# Altium footprint library PCB_EPS_2.PcbLib: 44 footprints (part 2 of 3)
Each footprint in its own frame and in the unit in brackets; x right, y up, seen from the top. Pads: shape width x height; smd on the part's side, far side on the other; paste and mask are expansions set on the pad; w line width, h text height; cw(c..) or ccw(c..) is an arc to the next point about the centre after c.
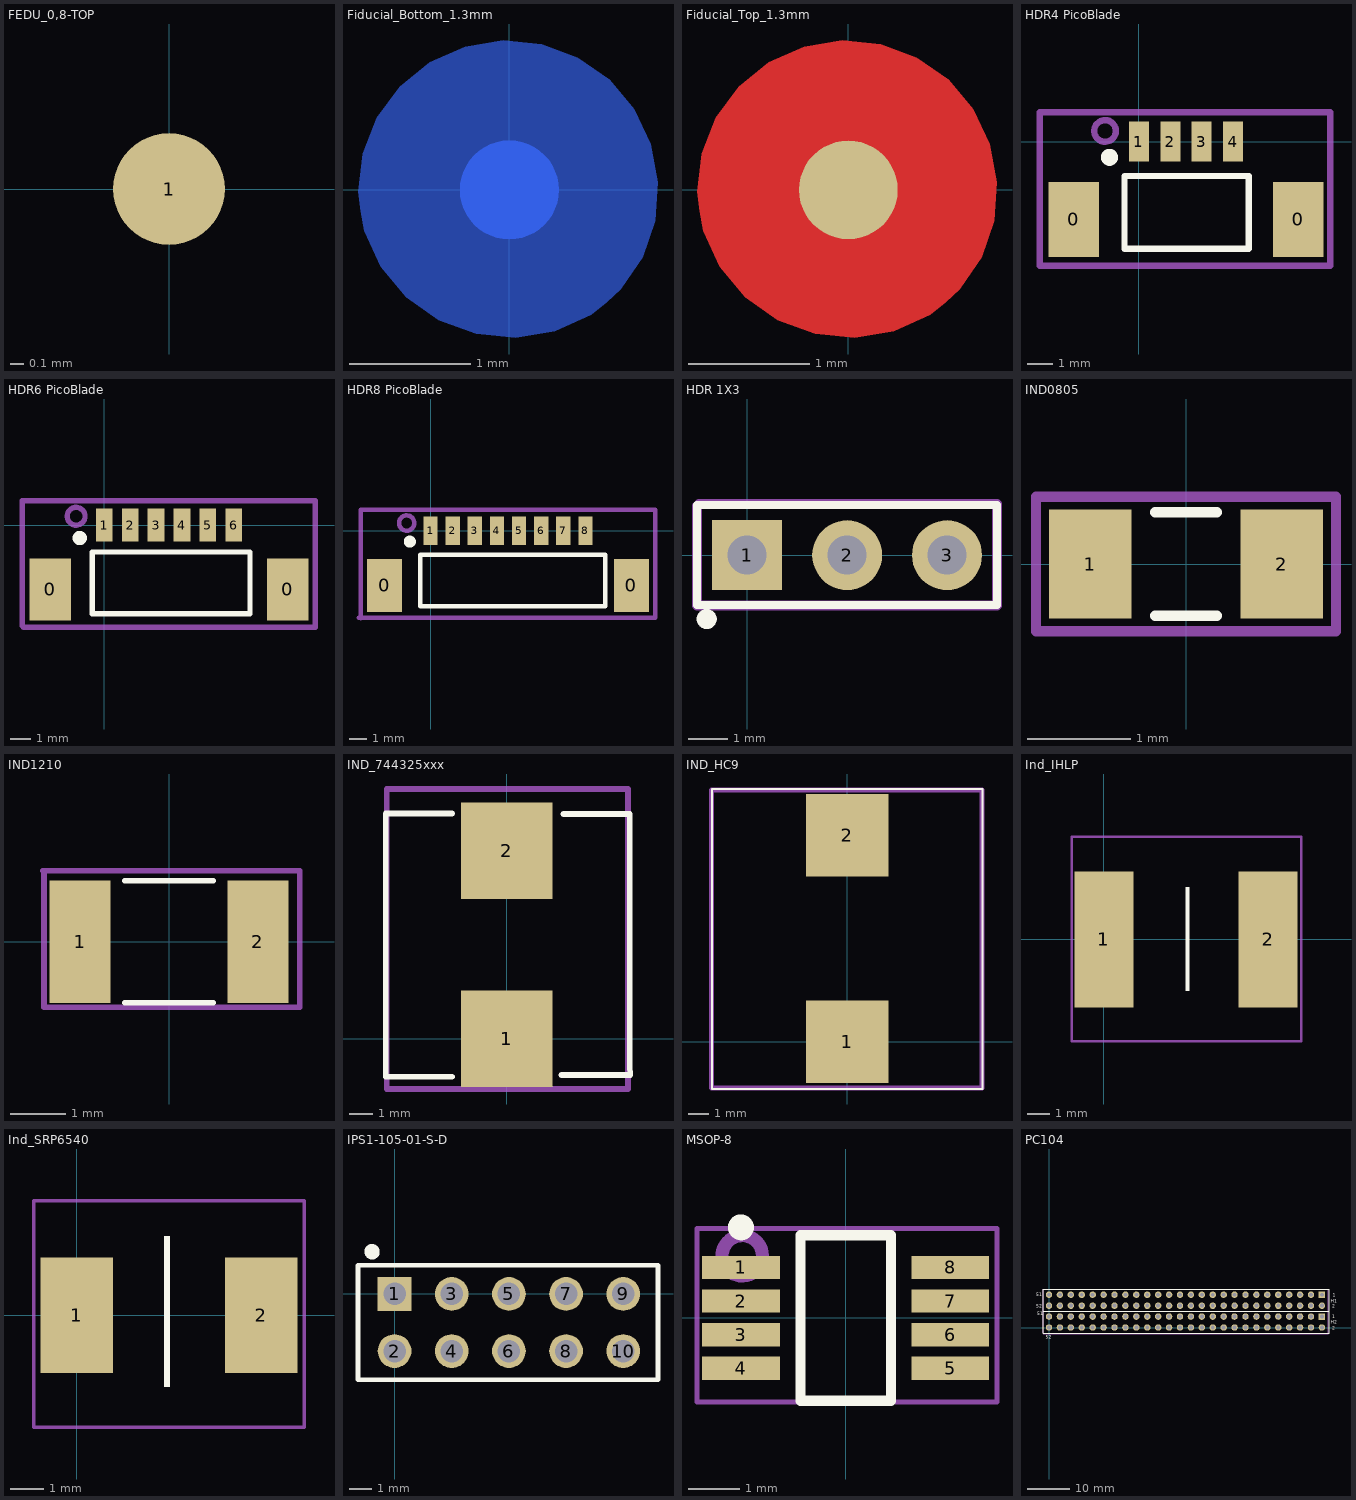
[diagram p1: the footprints below, top view; thin cyan lines are the x and y axes]

## FEDU_0,8-TOP [mil]
pads (1):
  round 32 smd: 1(0,0)
Top Solder:
  circle w10: c0,0 r43.01
  region: -31,-31 0,-43 32,-31 43,0 32,29 0,43 -31,31 -43,0

## Fiducial_Bottom_1.3mm [mil]
pads (2):
  round 32 smd far side: ""(-0.01,-0.01)
  round 32 on Bottom Solder: ""(0,0)
Bottom Layer:
  pour cut-out: -48.23,-6.89 -49.1,-0.69 -47.61,11.76 -43,23.41 -35.57,33.5 -25.81,41.35 -14.36,46.46 -1.99,48.47 10.48,47.27 22.23,42.91 32.48,35.71 40.55,26.12 45.91,14.79 48.2,2.47 47.27,-10.02 43.18,-21.87 36.2,-32.28 31.5,-36.42 26.5,-40.49 14.76,-45.8 2.06,-47.91 -10.77,-46.69 -22.85,-42.21 -33.38,-34.79 -41.64,-24.9 -47.09,-13.23
Bottom Solder:
  circle w10: c0,0 r43.01
  region: -31,-31 0,-43 32,-31 43,0 32,29 0,43 -31,31 -43,0

## Fiducial_Top_1.3mm [mil]
pads (1):
  round 32 smd: ""(0,0)
Top Layer:
  pour cut-out: 0.19,48.23
  pour cut-out: -48.23,-6.89 -49.1,-0.68 -47.61,11.76 -43,23.41 -35.57,33.5 -25.81,41.35 -14.36,46.46 -1.99,48.47 10.48,47.27 22.23,42.91 32.48,35.71 40.55,26.12 45.91,14.79 48.2,2.47 47.27,-10.02 43.18,-21.87 36.2,-32.28 31.5,-36.42 26.5,-40.49 14.76,-45.8 2.06,-47.91 -10.77,-46.69 -22.85,-42.21 -33.38,-34.79 -41.64,-24.9 -47.09,-13.23
Top Solder:
  circle w10: c0,0 r43.01
  region: -31,-31 0,-43 32,-31 43,0 32,29 0,43 -31,31 -43,0

## HDR4 PicoBlade [mm]
height 3.1
pads (6):
  rect 2x3 smd: 0(-2.6,-3.1) 0(6.35,-3.1)
  rect 0.8x1.6 smd: 1(0,0) 2(1.25,0) 3(2.5,0) 4(3.75,0)
Top Overlay:
  circle w0.5: c-1.175,-0.625 r0.09
  lines w0.254: -0.574,-4.275 -0.574,-1.372 4.375,-1.372 4.375,-4.275 -0.574,-4.275
Mechanical 15:
  circle w0.254: c-1.35,0.425 r0.432
  lines w0.254: -3.95,-4.95 -3.95,1.175 7.625,1.175 7.625,-4.95 -3.95,-4.95
  text ".Designator" at -3.341,-1.212 h0.89
3D body "User Library-molex 5339853398-0471.STEP": height 4.7, standoff 0, extent -3.15,-4.425 7,-0.225

## HDR6 PicoBlade [mm]
pads (8):
  rect 2x3 smd: 0(-2.6,-3.1) 0(8.85,-3.1)
  rect 0.8x1.6 smd: 1(0,0) 2(1.25,0) 3(2.5,0) 4(3.75,0) 5(5,0) 6(6.25,0)
Top Overlay:
  circle w0.5: c-1.175,-0.625 r0.09
  lines w0.254: -0.574,-4.275 -0.574,-1.3 7.025,-1.3 7.025,-4.275 -0.574,-4.275
Mechanical 15:
  circle w0.254: c-1.35,0.425 r0.432
  lines w0.254: -3.95,-4.85 -3.875,-4.925 10.175,-4.925 10.175,1.175 -3.95,1.175 -3.95,-4.85
  text ".Designator" at -3.341,-1.212 h0.89
3D body "User Library-molex 5339853398-0671.STEP": height 4.7, standoff 0, extent -3.125,-4.325 9.525,-0.125

## HDR8 PicoBlade [mm]
height 3.1
pads (10):
  rect 2x3 smd: 0(-2.6,-3.1) 0(11.35,-3.1)
  rect 0.8x1.6 smd: 1(0,0) 2(1.25,0) 3(2.5,0) 4(3.75,0) 5(5,0) 6(6.25,0) 7(7.5,0) 8(8.75,0)
Top Overlay:
  circle w0.5: c-1.175,-0.625 r0.09
  lines w0.254: -0.574,-4.275 -0.574,-1.372 9.875,-1.372 9.875,-4.275 -0.574,-4.275
Mechanical 15:
  circle w0.254: c-1.35,0.425 r0.432
  lines w0.254: -4.05,-4.925 12.7,-4.925 12.7,1.175 -3.95,1.175 -3.95,-4.95
  text ".Designator" at -3.341,-1.212 h0.89
3D body "User Library-molex 5339853398-0871.STEP": height 4.7, standoff 0, extent -3.225,-4.4 11.925,-0.2

## HDR 1X3 [mil]
height 122.05
pads (3):
  rect 70x70 hole 39: 1(0,0)
  round 70 hole 39: 2(100,0) 3(200,0)
Top Overlay:
  circle w10: c-40.45,-63.98 r5.02
  lines w8: -50,-50 250,-50 250,50 -50,50 -50,-50
Mechanical 15:
  lines w10: -50.2,-50.2 250,-50.2 250,51.18 -48.23,51.18 -50.2,49.21 -50.2,-50.2
  text ".Designator" at -44.29,-4.92 h35
3D body "Samtec-HTSW-103-07-G-S.STEP": height 330, standoff -100, extent -49.99,-49.99 250.01,50.01

## IND0805 [mm]
height 1.25
pads (2):
  rect 0.8x1.05 smd: 1(-0.925,0) 2(0.925,0)
Top Overlay:
  lines w0.1: -0.3,-0.5 0.3,-0.5 ; -0.3,0.5 0.3,0.5
Mechanical 15:
  lines w0.1: -1.45,-0.65 1.45,-0.65 1.45,0.65 -1.45,0.65 -1.45,-0.65
  text ".Designator" at -1.15,-0.1 h0.89
3D body "INDC0805(2012M).STEP": height 0.95, standoff 0, extent -1,-0.6 1,0.6

## IND1210 [mm]
height 2.5
pads (2):
  rect 1.1x2.2 smd: 1(-1.6,0) 2(1.6,0)
Top Overlay:
  lines w0.1: -0.8,-1.1 0.8,-1.1 ; -0.8,1.1 0.8,1.1
Mechanical 15:
  lines w0.1: -2.275,1.275 2.35,1.275 2.35,-1.175 -2.25,-1.175 -2.25,1.25
  text ".Designator" at -2.225,0.6 h0.89
3D body "INDC1210(3225M).STEP": height 1.35, standoff 0, extent -1.6,-1.25 1.6,1.25

## IND_744325xxx [mm]
height 2.8
pads (2):
  rect 4x4.2 smd paste+0: 1(0,0)
  rect 4x4.2 smd: 2(0,8.2)
Top Overlay:
  lines w0.254: -2.388,-1.651 -5.283,-1.651 -5.283,9.83 -5.232,9.83 -2.388,9.83 ; 2.388,-1.575 5.385,-1.575 5.359,-1.194 5.359,9.804 2.464,9.804
Mechanical 15:
  lines w0.254: -5.232,-2.184 -5.232,-1.473 -5.232,10.897 5.283,10.897 5.283,-2.184 -5.232,-2.184
  text ".Designator" at -2.516,1.563 h0.89
3D body "SW3dPS-744325120.STEP": height 4.72, standoff -0.09, extent -5.08,-1.334 5.432,9.666

## IND_HC9 [mm]
height 2.8
pads (2):
  rect 4x4 smd paste+0: 1(0,0)
  rect 4x4 smd: 2(0,10)
Top Overlay:
  lines w0.1: -6.55,12.243 -6.55,-2.286 6.55,-2.286 6.55,12.192 ; -6.528,12.243 6.55,12.243
Mechanical 15:
  lines w0.254: -6.579,-2.235 -6.579,12.192 6.528,12.192 6.528,-2.235 -2.465,-2.235 -6.579,-2.235
  text ".Designator" at -2.516,1.563 h0.89
3D body "User Library-SRR1260-680M.STEP": height 6.29, standoff 0, extent -6.223,-1.272 6.277,11.228

## Ind_IHLP [mm]
height 3.1
pads (2):
  rect 2.6x6 smd: 1(0,0) 2(7.239,0)
Top Overlay:
  region: 3.775,-2.275 3.775,2.3 3.598,2.3 3.598,-2.275
Mechanical 15:
  lines w0.1: -1.425,-4.5 8.7,-4.5 8.7,4.525 -1.425,4.525 -1.425,-4.5
  text ".Designator" at 0.75,0.825 h0.89
3D body "User Library-SRR6028.STEP": height 3.1, standoff 0, extent 0,-3.275 6.8,3.525

## Ind_SRP6540 [mm]
height 3.1
pads (2):
  rect 2.2x3.5 smd: 1(0,0) 2(5.6,0)
Top Overlay:
  region: 2.827,-2.175 2.827,2.4 2.65,2.4 2.65,-2.175
Mechanical 15:
  lines w0.1: -1.3,-3.4 6.9,-3.4 6.9,3.475 -1.3,3.475 -1.3,-3.4
  text ".Designator" at 0.175,2.2 h0.89
3D body "User Library-SRR6028.STEP": height 3.1, standoff 0, extent -0.575,-3.4 6.225,3.4

## IPS1-105-01-S-D [mm] "10 Positions Header, Shrouded Connector 0.100\" (2.54mm) Through Hole Gold"
pads (10):
  rect 1.5x1.5 hole 1: 1(0,0)
  round 1.5 hole 1: 2(0,-2.54) 3(2.54,0) 4(2.54,-2.54) 5(5.08,0) 6(5.08,-2.54) 7(7.62,0) 8(7.62,-2.54) 9(10.16,0) 10(10.16,-2.54)
Top Overlay:
  lines w0.2: -1.625,-3.81 11.704,-3.81 11.704,-2.266 11.704,-0.274 11.704,1.27 -1.625,1.27 -1.625,-3.81
  lines w0.381: -0.851,1.846 cw(c-1,1.875) -0.85,1.899
3D body "IPS1-105-01-S-D.stp": height 2.54, standoff -8.51, extent -1.44,-3.727 11.641,1.226

## MSOP-8 [mm] "8-Lead Mini Small Outline Package [MSOP] (RM-8)"
height 0.95
pads (8):
  rect 1.5x0.45 smd: 1(-2.025,0.975) 2(-2.025,0.325) 3(-2.025,-0.325) 4(-2.025,-0.975) 5(2.025,-0.975) 6(2.025,-0.325) 7(2.025,0.325) 8(2.025,0.975)
Top Overlay:
  circle w0.25: c-2.025,1.75 r0.125
  lines w0.2: -0.875,-1.6 0.875,-1.6 0.875,1.6 -0.875,1.6 -0.875,-1.6
Mechanical 15:
  circle w0.254: c-2,1.2 r0.391
  lines w0.1: -2.875,-1.625 2.925,-1.625 2.925,1.725 -2.875,1.725 -2.875,-1.625
  text ".Designator" at -2.6,-0.2 h0.89
3D body "MSOP-8 (MO-187-AA).STEP": height 1.1, standoff 0, extent -2.46,-1.5 2.46,1.5

## PC104 [mm] "Connector; Header; 26x4 Position"
height 3.1
pads (104):
  rect 1.5x1.5 hole 0.9: H1-1(63.5,7.7) H2-1(63.5,2.625)
  round 1.5 hole 0.9: H1-2(63.5,5.16) H1-3(60.96,7.7) H1-4(60.96,5.16) H1-5(58.42,7.7) H1-6(58.42,5.16) H1-7(55.88,7.7) H1-8(55.88,5.16) H1-9(53.34,7.7) H1-10(53.34,5.16) H1-11(50.8,7.7) H1-12(50.8,5.16) H1-13(48.26,7.7) H1-14(48.26,5.16) H1-15(45.72,7.7) H1-16(45.72,5.16) H1-17(43.155,7.7) H1-18(43.18,5.16) H1-19(40.64,7.7) H1-20(40.64,5.16) H1-21(38.1,7.7) H1-22(38.1,5.16) H1-23(35.56,7.7) H1-24(35.56,5.16) H1-25(33.02,7.7) H1-26(33.02,5.16) H1-27(30.48,7.7) H1-28(30.48,5.16) H1-29(27.94,7.7) H1-30(27.94,5.16) H1-31(25.4,7.7) H1-32(25.4,5.16) H1-33(22.86,7.7) H1-34(22.86,5.16) H1-35(20.32,7.7) H1-36(20.32,5.16) H1-37(17.78,7.7) H1-38(17.78,5.16) H1-39(15.24,7.7) H1-40(15.24,5.16) H1-41(12.7,7.7) H1-42(12.7,5.16) H1-43(10.16,7.7) H1-44(10.16,5.16) H1-45(7.62,7.7) H1-46(7.62,5.16) H1-47(5.08,7.7) H1-48(5.08,5.16) H1-49(2.54,7.7) H1-50(2.54,5.16) H1-51(0,7.7) H1-52(0,5.16) H2-2(63.5,0.08) H2-3(60.96,2.62) H2-4(60.96,0.08) H2-5(58.42,2.62) H2-6(58.42,0.08) H2-7(55.88,2.62) H2-8(55.88,0.08) H2-9(53.34,2.625) H2-10(53.34,0.08) H2-11(50.8,2.625) H2-12(50.8,0.08) H2-13(48.26,2.62) H2-14(48.26,0.08) H2-15(45.72,2.62) H2-16(45.72,0.08) H2-17(43.155,2.62) H2-18(43.18,0.08) H2-19(40.64,2.62) H2-20(40.64,0.08) H2-21(38.1,2.62) H2-22(38.1,0.08) H2-23(35.56,2.62) H2-24(35.56,0.08) H2-25(33.02,2.62) H2-26(33.02,0.08) H2-27(30.48,2.62) H2-28(30.48,0.08) H2-29(27.94,2.62) H2-30(27.94,0.08) H2-31(25.4,2.62) H2-32(25.4,0.08) H2-33(22.86,2.62) H2-34(22.86,0.08) H2-35(20.32,2.62) H2-36(20.32,0.08) H2-37(17.78,2.62) H2-38(17.78,0.08) H2-39(15.24,2.62) H2-40(15.24,0.08) H2-41(12.7,2.62) H2-42(12.7,0.08) H2-43(10.16,2.62) H2-44(10.16,0.08) H2-45(7.62,2.62) H2-46(7.62,0.08) H2-47(5.08,2.62) H2-48(5.08,0.08) H2-49(2.54,2.62) H2-50(2.54,0.08) H2-51(0,2.62) H2-52(0,0.08)
Top Overlay:
  lines w0.2: -1.375,-1.225 -1.375,3.895 65.175,3.895 65.175,-1.225 -1.375,-1.225 ; -1.375,3.89 65.175,3.89 65.175,8.97 -1.375,8.97 -1.375,3.89
  text "H1" at 65.6,5.85 h0.75
  text "H2" at 65.6,0.975 h0.75
  text "52" at -2.996,4.686 h0.75
  text "51" at -3.025,7.3 h0.75
  text "51" at -2.786,2.926 h0.75
  text "52" at -0.71,-2.54 h0.75
  text "1" at 66.025,7.225 h0.75
  text "2" at 65.875,4.625 h0.75
  text "2" at 65.875,-0.4 h0.75
  text "1" at 65.9,2.175 h0.75
Mechanical 15:
  lines w0.1: -1.375,-1.325 64.975,-1.325 64.975,8.975 -1.375,8.975 -1.375,-1.325
  text ".Designator" at 48.075,6.075 h0.89
3D body "SSW-126-01-G-D.stp": height 8.52, standoff -2.63, extent -1.524,4 65.024,8.954
3D body "SSW-126-01-G-D.stp": height 8.52, standoff -2.63, extent -1.524,-1.207 65.024,3.747